# Altium footprint library vga.PcbLib: 95 footprints (part 5 of 7)
Each footprint in its own frame and in the unit in brackets; x right, y up, seen from the top. Pads: shape width x height; smd on the part's side, far side on the other; paste and mask are expansions set on the pad; w line width, h text height; cw(c..) or ccw(c..) is an arc to the next point about the centre after c.
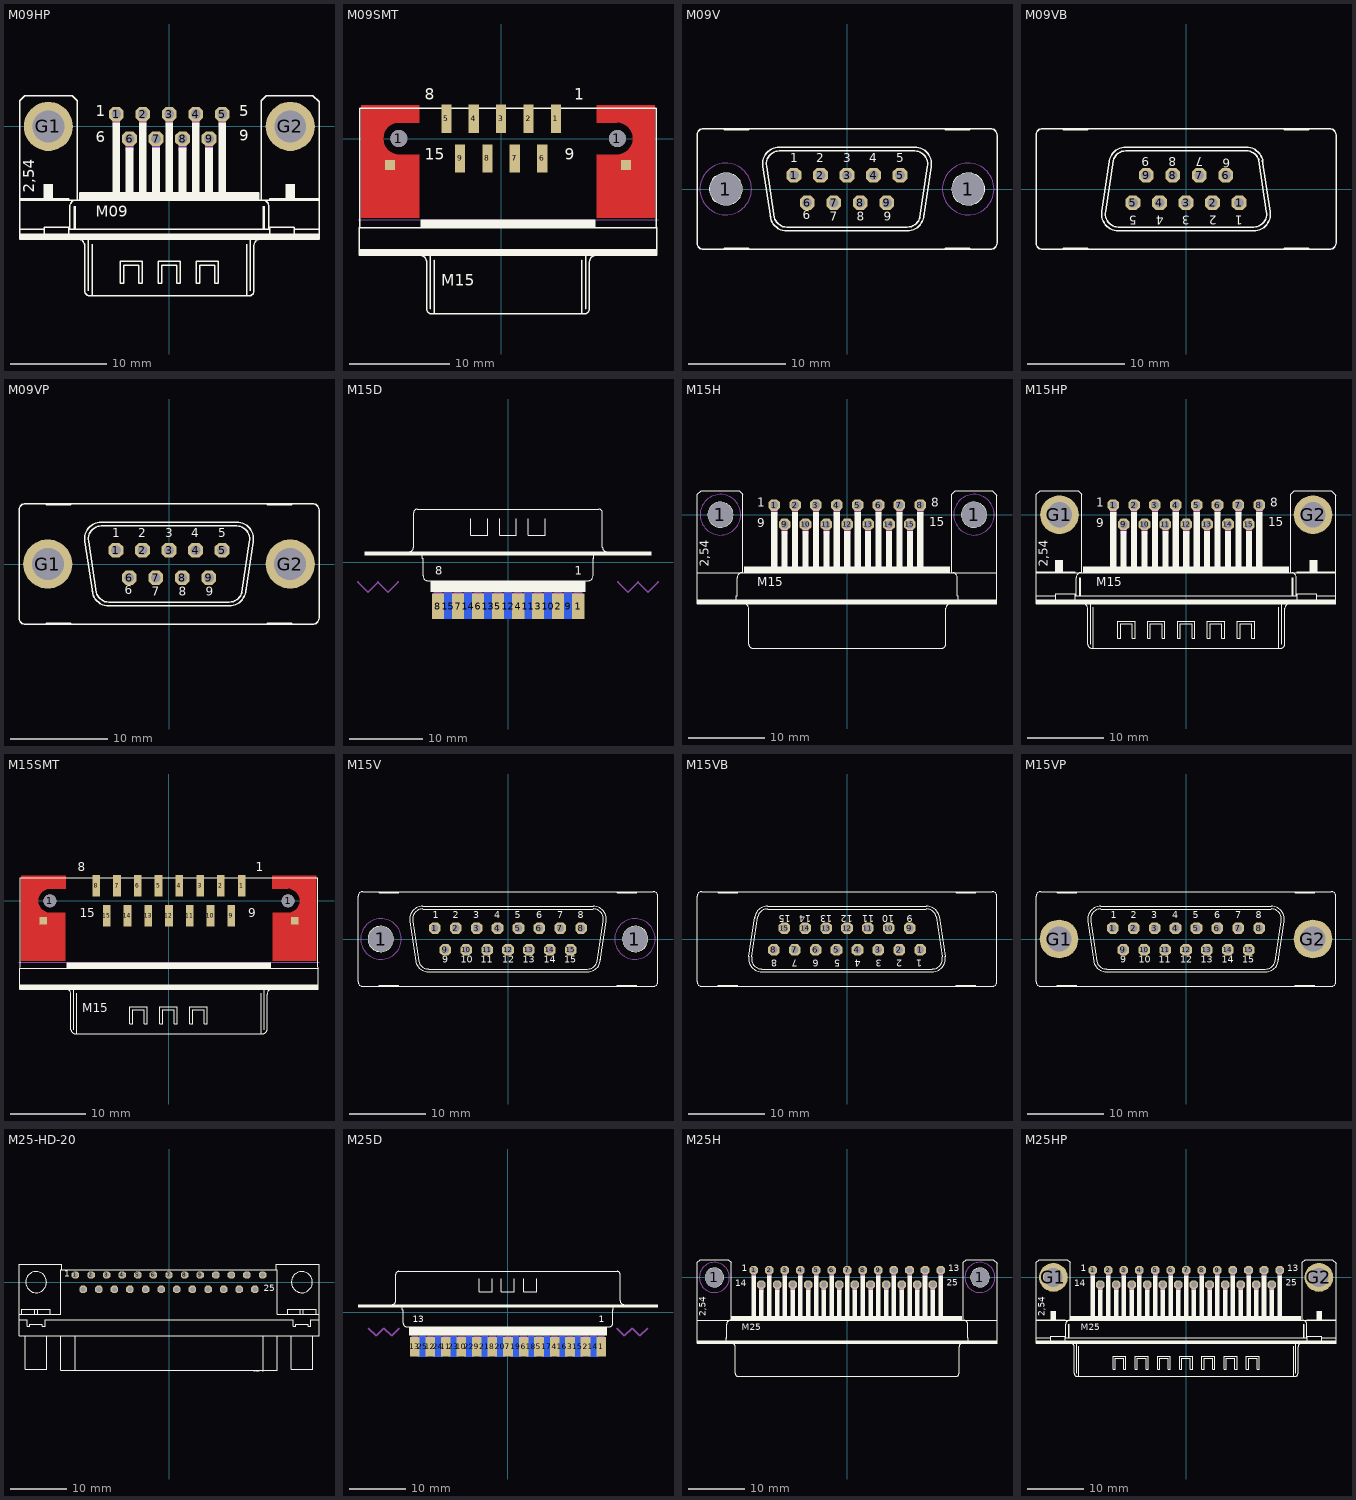
[diagram p4: the footprints below, top view; thin cyan lines are the x and y axes]

## M09HP [mil]
pads (11):
  oct 60x60 hole 40: 1(-216,50) 2(-108,50) 3(0,50) 4(108,50) 5(216,50) 6(-162,-50) 7(-54,-50) 8(54,-50) 9(162,-50)
  round 200 hole 130: G1(-493,0) G2(493,0)
Top Overlay:
  circle w6: c493,0 r65
  circle w6: c-493,0 r65
  rectangle: 380,-420 390,-325
  rectangle: -390,-420 -380,-325
  rectangle: 473,-300 513,-235
  rectangle: -513,-300 -473,-235
  rectangle: -365,-300 365,-270
  rectangle: -610,-460 610,-440
  rectangle: -232,-270 -200,15
  rectangle: -178,-270 -146,-85
  rectangle: -124,-270 -92,15
  rectangle: -70,-270 -38,-85
  rectangle: -16,-270 16,15
  rectangle: 38,-270 70,-85
  rectangle: 92,-270 124,15
  rectangle: 146,-270 178,-85
  rectangle: 200,-270 232,15
  lines w6: -380,-300 ccw(c-380,-325) -405,-325 -405,-420 ; -370,-460 cw(c-370,-485) -345,-485 -345,-670 ccw(c-325,-670) -325,-690 -315,-690 ; -330,-670 -330,-460 ; -315,-480 -315,-690 ; 315,-480 315,-690 ; 330,-670 330,-460 ; 370,-460 ccw(c370,-485) 345,-485 345,-670 cw(c325,-670) 325,-690 315,-690 ; 380,-300 cw(c380,-325) 405,-325 405,-420 ; -610,-440 -610,-460 -330,-460 ; -610,-440 -610,-420 ; -610,-440 -510,-440 ; -610,-420 -610,-300 ; -610,-420 -510,-420 ; -610,-300 -610,-295 ; -610,-300 -410,-300 ; -610,-295 -410,-295 -410,-300 ; -610,-295 -610,105 -590,125 -395,125 -375,105 -375,-300 ; -510,-440 -510,-420 ; -510,-440 -410,-440 ; -510,-420 -510,-410 -410,-410 -410,-420 ; -410,-440 410,-440 ; -410,-440 -410,-420 ; -410,-420 -405,-420 ; -410,-300 -375,-300 ; -405,-420 405,-420 ; -375,-300 -365,-300 ; -365,-300 365,-300 ; -365,-300 -365,-270 365,-270 365,-300 ; -330,-460 330,-460 ; -315,-690 315,-690 ; 330,-460 610,-460 610,-440 ; 365,-300 375,-300 ; 375,-300 410,-300 ; 375,-300 375,105 395,125 585,125 610,100 610,-295 ; 405,-420 410,-420 ; 410,-440 510,-440 ; 410,-440 410,-420 ; 410,-420 410,-410 510,-410 510,-420 ; 410,-300 610,-300 ; 410,-300 410,-295 610,-295 ; 510,-440 610,-440 ; 510,-440 510,-420 ; 510,-420 610,-420 ; 610,-440 610,-420 ; 610,-420 610,-300 ; 610,-300 610,-295 ; -200,-640 -185,-640 -185,-565 -125,-565 -125,-640 -110,-640 -110,-550 -200,-550 -200,-640 ; -45,-640 -30,-640 -30,-565 30,-565 30,-640 45,-640 45,-550 -45,-550 -45,-640 ; 110,-640 125,-640 125,-565 185,-565 185,-640 200,-640 200,-550 110,-550 110,-640
  text "1" at -300,25 h77.5
  text "5" at 285,25 h77.5
  text "9" at 285,-75 h77.5
  text "6" at -300,-80 h77.5
  text "2,54" at -535,-270 h77.5
  text "M09" at -300,-385 h77.5
Mechanical 2:
  text ">NAME" at -600,175 h108.5
Mechanical 4:
  text ">VALUE" at -300,-805 h108.5
Mechanical 16:
  lines w32: -216,5 -216,45 ; -162,-95 -162,-55 ; -108,5 -108,45 ; -54,-95 -54,-55 ; 0,5 0,45 ; 54,-95 54,-55 ; 108,5 108,45 ; 162,-95 162,-55 ; 216,5 216,45

## M09SMT [mil]
pads (13):
  round 67 hole 67: 1(-403.15,0) 1(458,0)
  rect 40x111 smd: 1(216,78) 2(108,78) 3(0,78) 4(-107.87,78) 5(-215.75,78) 6(162,-77.76) 7(54,-77.76) 8(-53.94,-77.76) 9(-161.81,-77.76)
  rect 40x40 smd: S@1(492,-104.33) S@2(-437.6,-103.35)
Top Layer:
  region: -551.08,-312.5 -322.44,-312.5 -322.44,-62.5 -401.08,-62.8 -413.38,-61.59 -425.21,-58 -436.11,-52.18 -445.67,-44.34 -453.51,-34.78 -459.34,-23.88 -462.92,-12.05 -464.14,0.25 -462.92,12.55 -459.34,24.38 -453.51,35.28 -445.67,44.84 -436.11,52.68 -425.21,58.5 -413.38,62.09 -401.08,63.3 -401.08,63 -321.46,63 -321.46,131 -551.08,131
  region: 606,-312.5 377,-312.5 377,-62.5 456,-62.8 456.01,-62.8 468.31,-61.59 480.13,-58 491.04,-52.18 500.59,-44.34 508.43,-34.78 514.26,-23.88 517.85,-12.05 519.06,0.25 517.85,12.55 514.26,24.38 508.43,35.28 500.59,44.84 491.04,52.68 480.13,58.5 468.31,62.09 456.01,63.3 456,63.3 456,63 376,63 376,131 606,131
Top Overlay:
  rectangle: -312.5,-351.18 368,-321.18
  rectangle: -558.07,-460 614,-434.65
  lines w6: -318.58,-460 cw(c-318.58,-485) -293.58,-485 -293.58,-670 ccw(c-273.58,-670) -273.58,-690 -263.58,-690 ; -278.58,-670 -278.58,-460 ; -263.58,-480 -263.58,-690 ; 318,-480 318,-690 ; 333,-670 333,-460 ; 373,-460 ccw(c373,-485) 348,-485 348,-670 cw(c328,-670) 328,-690 318,-690 ; -558.58,-351.18 -558.58,-460 -278.58,-460 ; -558.58,-351.18 -556.69,-346.18 -556.69,119 611,119 611,-346.18 613,-351.18 ; -558.58,-351.18 -313.58,-351.18 ; -313.58,-351.18 368,-351.18 ; -313.58,-351.18 -313.58,-321.18 368,-321.18 368,-351.18 ; -278.58,-460 333,-460 ; -263.58,-690 318,-690 ; 333,-460 613,-460 613,-351.18 ; 368,-351.18 613,-351.18
  text "8" at -300,138 h77.5
  text "1" at 289,138 h77.5
  text "15" at -300,-100 h77.5
  text "9" at 251,-100 h77.5
  text "M15" at -235.79,-594.65 h77.5
Mechanical 1:
  lines w0: -563.68,-318.9 618,-318.9
Mechanical 2:
  text ">NAME" at 139,200 h108.5
Mechanical 4:
  text ">VALUE" at -309.25,200 h108.5

## M09V [mil]
pads (11):
  round 130 hole 130: 1(-493,0) 1(493,0)
  oct 60x60 hole 40: 1(-216,56) 2(-108,56) 3(0,56) 4(108,56) 5(216,56) 6(-162,-56) 7(-54,-56) 8(54,-56) 9(162,-56)
Top Overlay:
  circle w6: c-493,0 r65
  circle w6: c493,0 r65
  lines w6: -342,92 -311,-116 ; -341.68,89 cw(c-275.14,102.17) -275,170 275,170 cw(c275.29,102.03) 342,89 ; -327,92 -296,-116 ; -326.97,92 cw(c-275.16,102.2) -275,155 275,155 cw(c275.22,102.06) 327,91 296,-115 ; -312.4,-110.99 ccw(c-245,-102) -245,-170 245,-170 ccw(c245.04,-101.94) 313,-105.7 ; -296.3,-115.33 ccw(c-245,-102) -245,-155 245,-155 ccw(c245.23,-101.7) 297,-114.37 ; 312,-113 342,91 ; -500,-245 -500,-240 -400,-240 -400,-245 ; -500,-245 -400,-245 ; -500,-245 -585,-245 cw(c-585,-220) -610,-220 -610,220 cw(c-585,220) -585,245 -500,245 ; -500,245 -500,240 -400,240 -400,245 ; -500,245 -400,245 ; -400,-245 400,-245 ; -400,245 400,245 ; 400,-245 400,-240 500,-240 500,-245 ; 400,-245 500,-245 ; 400,245 400,240 500,240 500,245 ; 400,245 500,245 ; 500,-245 585,-245 ccw(c585,-220) 610,-220 610,220 ccw(c585,220) 585,245 500,245
  text "3" at -15,96 h60.45
  text "1" at -230,96 h60.45
  text "2" at -125,96 h60.45
  text "4" at 90,96 h60.45
  text "5" at 200,96 h60.45
  text "6" at -180,-136 h60.45
  text "7" at -70,-141 h60.45
  text "8" at 40,-141 h60.45
  text "9" at 150,-141 h60.45
Mechanical 2:
  text ">NAME" at -600,275 h108.5
Mechanical 4:
  text ">VALUE" at -100,275 h108.5
Mechanical 9:
  circle w0: c-493,0 r105
  circle w0: c493,0 r105
Mechanical 10:
  circle w0: c-493,0 r105
  circle w0: c493,0 r105
Mechanical 16:
  circle w16: c0,56 r10
  circle w16: c54,-56 r10
  circle w16: c108,56 r10
  circle w16: c162,-56 r10
  circle w16: c216,56 r10
  circle w16: c-54,-56 r10
  circle w16: c-108,56 r10
  circle w16: c-162,-56 r10
  circle w16: c-216,56 r10

## M09VB [mil]
pads (9):
  oct 60x60 hole 40: 1(216,-56) 2(108,-56) 3(0,-56) 4(-108,-56) 5(-216,-56) 6(162,56) 7(54,56) 8(-54,56) 9(-162,56)
Top Overlay:
  lines w6: -342,-91 -312,113 ; -341.69,-88.67 ccw(c-275,-101.99) -275,-170 275,-170 ccw(c275.16,-101.87) 342,-88.67 ; -327,-91 -296,115 ; -326.79,-90.7 ccw(c-275,-101.99) -275,-155 275,-155 ccw(c275.01,-101.99) 327,-91.61 ; -312.89,106 cw(c-245.14,102.15) -245,170 245,170 cw(c245.3,101.66) 313,111 ; -296.52,115 cw(c-245.39,102.31) -245,155 245,155 cw(c245.78,101.88) 297,116 ; 296,116 327,-92 ; 311,116 342,-92 ; -500,-245 -585,-245 cw(c-585,-220) -610,-220 -610,220 cw(c-585,220) -585,245 -500,245 ; -500,-245 -500,-240 -400,-240 -400,-245 ; -500,-245 -400,-245 ; -500,245 -400,245 ; -500,245 -500,240 -400,240 -400,245 ; -400,-245 400,-245 ; -400,245 400,245 ; 400,-245 400,-240 500,-240 500,-245 ; 400,-245 500,-245 ; 400,245 500,245 ; 400,245 400,240 500,240 500,245 ; 500,-245 585,-245 ccw(c585,-220) 610,-220 610,220 ccw(c585,220) 585,245 500,245
  text "3" at 15,-96 h60.45
  text "1" at 230,-96 h60.45
  text "2" at 125,-96 h60.45
  text "4" at -90,-96 h60.45
  text "5" at -200,-96 h60.45
  text "6" at 180,136 h60.45
  text "7" at 70,141 h60.45
  text "8" at -40,141 h60.45
  text "9" at -150,141 h60.45
Mechanical 2:
  text ">NAME" at -600,275 h108.5
Mechanical 4:
  text ">VALUE" at -100,275 h108.5
Mechanical 16:
  circle w16: c0,-56 r10
  circle w16: c-54,56 r10
  circle w16: c-108,-56 r10
  circle w16: c-162,56 r10
  circle w16: c-216,-56 r10
  circle w16: c54,56 r10
  circle w16: c108,-56 r10
  circle w16: c162,56 r10
  circle w16: c216,-56 r10

## M09VP [mil]
pads (11):
  oct 60x60 hole 40: 1(-216,56) 2(-108,56) 3(0,56) 4(108,56) 5(216,56) 6(-162,-56) 7(-54,-56) 8(54,-56) 9(162,-56)
  round 200 hole 130: G1(-493,0) G2(493,0)
Top Overlay:
  circle w6: c-493,0 r65
  circle w6: c493,0 r65
  lines w6: -342,92 -311,-116 ; -341.68,89 cw(c-275.14,102.17) -275,170 275,170 cw(c275.29,102.03) 342,89 ; -327,92 -296,-116 ; -326.97,92 cw(c-275.16,102.2) -275,155 275,155 cw(c275.22,102.06) 327,91 296,-115 ; -312.4,-110.99 ccw(c-245,-102) -245,-170 245,-170 ccw(c245.04,-101.94) 313,-105.7 ; -296.3,-115.33 ccw(c-245,-102) -245,-155 245,-155 ccw(c245.23,-101.7) 297,-114.37 ; 312,-113 342,91 ; -500,-245 -500,-240 -400,-240 -400,-245 ; -500,-245 -400,-245 ; -500,-245 -585,-245 cw(c-585,-220) -610,-220 -610,220 cw(c-585,220) -585,245 -500,245 ; -500,245 -500,240 -400,240 -400,245 ; -500,245 -400,245 ; -400,-245 400,-245 ; -400,245 400,245 ; 400,-245 400,-240 500,-240 500,-245 ; 400,-245 500,-245 ; 400,245 400,240 500,240 500,245 ; 400,245 500,245 ; 500,-245 585,-245 ccw(c585,-220) 610,-220 610,220 ccw(c585,220) 585,245 500,245
  text "3" at -15,96 h60.45
  text "1" at -230,96 h60.45
  text "2" at -125,96 h60.45
  text "4" at 90,96 h60.45
  text "5" at 200,96 h60.45
  text "6" at -180,-136 h60.45
  text "7" at -70,-141 h60.45
  text "8" at 40,-141 h60.45
  text "9" at 150,-141 h60.45
Mechanical 2:
  text ">NAME" at -600,275 h108.5
Mechanical 4:
  text ">VALUE" at -100,275 h108.5
Mechanical 16:
  circle w16: c0,56 r10
  circle w16: c54,-56 r10
  circle w16: c108,56 r10
  circle w16: c162,-56 r10
  circle w16: c216,56 r10
  circle w16: c-54,-56 r10
  circle w16: c-108,56 r10
  circle w16: c-162,-56 r10
  circle w16: c-216,56 r10

## M15D [mil]
pads (15):
  rect 67x138 smd: 1(379,-237.98) 2(270,-237.99) 3(162,-237.98) 4(55,-237.98) 5(-54.01,-237.98) 6(-161.99,-237.98) 7(-270,-237.99) 8(-378.01,-237.98)
  rect 67x138 smd far side: 9(324,-238) 10(216,-238) 11(108,-238) 12(0,-238) 13(-108,-238) 14(-216,-238) 15(-324,-238)
Top Overlay:
  rectangle: -775,36 775,56
  rectangle: -417.32,-161.42 418,-98.43
  lines w6: -535,56 ccw(c-535,81) -510,81 -510,266 cw(c-490,266) -490,286 490,286 cw(c490,266) 510,266 510,81 ccw(c535,81) 535,56 ; -464,40 -464,20 -459,20 -459,-75 ccw(c-434,-75) -434,-100 ; -434.76,-100 435,-100 ; -200,235 -200,145 -110,145 -110,235 ; -45,235 -45,145 45,145 45,235 ; 110,235 110,145 200,145 200,235 ; 434,-100 ccw(c434,-75) 459,-75 459,20 464,20 464,40
  text "1" at 361,-85.77 h77.5
  text "8" at -393.8,-85.77 h77.5
Bottom Overlay:
  text "9" at 346,-32.48 h77.5
  text "15" at -307.19,-32.48 h77.5
Mechanical 2:
  text ">NAME" at -404,-400 h108.5
Mechanical 4:
  text ">VALUE" at -4,-400 h108.5
Mechanical 13:
  lines w10: -810,-108 -756,-162 -702,-108 -648,-162 -594,-108 ; 594,-108 648,-162 702,-108 756,-162 810,-108
  text "Board" at 612,-100 h77.5
  text "Board" at -812,-100 h77.5
Mechanical 16:
  rectangle: 355,-258.27 402,-159.84
  rectangle: 247,-258.27 294,-159.84
  rectangle: 139,-258.27 186,-159.84
  rectangle: 31,-258.27 78,-159.84
  rectangle: -77.62,-258.27 -30.38,-159.84
  rectangle: -185.62,-258.27 -138.38,-159.84
  rectangle: -293.62,-258.27 -246.38,-159.84
  rectangle: -401.62,-258.27 -354.38,-159.84
  text "M15D" at -408,181 h77.5
Mechanical 30:
  rectangle: 301,-258.27 348,-159.84
  rectangle: 193,-258.27 240,-159.84
  rectangle: 85,-258.27 132,-159.84
  rectangle: -23.62,-258.27 24,-159.84
  rectangle: -131.62,-258.27 -84.38,-159.84
  rectangle: -239.62,-258.27 -192.38,-159.84
  rectangle: -347.62,-258.27 -300.38,-159.84

## M15H [mil]
pads (17):
  round 130 hole 130: 1(-656,0) 1(656,0)
  oct 60x60 hole 40: 1(-378,50) 2(-270,50) 3(-162,50) 4(-54,50) 5(54,50) 6(162,50) 7(270,50) 8(378,50) 9(-324,-50) 10(-216,-50) 11(-108,-50) 12(0,-50) 13(108,-50) 14(216,-50) 15(324,-50)
Top Overlay:
  circle w6: c656,0 r65
  circle w6: c-656,0 r65
  rectangle: -775,-460 775,-440
  rectangle: -530,-300 530,-270
  rectangle: -394,-270 -362,15
  rectangle: -340,-270 -308,-85
  rectangle: -286,-270 -254,15
  rectangle: -232,-270 -200,-85
  rectangle: -178,-270 -146,15
  rectangle: -124,-270 -92,-85
  rectangle: -70,-270 -38,15
  rectangle: -16,-270 16,-85
  rectangle: 38,-270 70,15
  rectangle: 92,-270 124,-85
  rectangle: 146,-270 178,15
  rectangle: 200,-270 232,-85
  rectangle: 254,-270 286,15
  rectangle: 308,-270 340,-85
  rectangle: 362,-270 394,15
  lines w6: -545,-300 ccw(c-545,-325) -570,-325 -570,-420 -575,-420 -575,-440 ; -535,-460 cw(c-535,-485) -510,-485 -510,-670 ccw(c-490,-670) -490,-690 -480,-690 480,-690 490,-690 ccw(c490,-670) 510,-670 510,-485 cw(c535,-485) 535,-460 ; 545,-300 cw(c545,-325) 570,-325 570,-420 575,-420 575,-440 ; -775,-440 -775,-460 -495,-460 495,-460 775,-460 775,-440 ; -775,-440 -775,-420 -775,-300 ; -775,-440 -675,-440 -575,-440 ; -775,-300 -775,-295 -775,105 -755,125 -560,125 -540,105 -540,-300 ; -775,-300 -575,-300 -540,-300 ; -575,-440 575,-440 ; -540,-300 -530,-300 ; -530,-300 530,-300 ; -530,-300 -530,-270 530,-270 530,-300 ; 530,-300 540,-300 ; 540,-300 575,-300 775,-300 ; 540,-300 540,105 560,125 750,125 775,100 775,-295 775,-300 ; 575,-440 675,-440 775,-440 ; 775,-440 775,-420 775,-300
  text "1" at -465,25 h77.5
  text "8" at 435,25 h77.5
  text "9" at -465,-80 h77.5
  text "15" at 425,-75 h77.5
  text "2,54" at -700,-270 h77.5
  text "M15" at -465,-385 h77.5
Mechanical 2:
  text ">NAME" at -760,175 h108.5
Mechanical 4:
  text ">VALUE" at -400,-805 h108.5
Mechanical 9:
  circle w0: c656,0 r105
  circle w0: c-656,0 r105
Mechanical 10:
  circle w0: c656,0 r105
  circle w0: c-656,0 r105
Mechanical 16:
  lines w32: -378,5 -378,45 ; -324,-95 -324,-55 ; -270,5 -270,45 ; -216,-95 -216,-55 ; -162,5 -162,45 ; -108,-95 -108,-55 ; -54,5 -54,45 ; 0,-95 0,-55 ; 54,5 54,45 ; 108,-95 108,-55 ; 162,5 162,45 ; 216,-95 216,-55 ; 270,5 270,45 ; 324,-95 324,-55 ; 378,5 378,45

## M15HP [mil]
pads (17):
  oct 60x60 hole 40: 1(-378,50) 2(-270,50) 3(-162,50) 4(-54,50) 5(54,50) 6(162,50) 7(270,50) 8(378,50) 9(-324,-50) 10(-216,-50) 11(-108,-50) 12(0,-50) 13(108,-50) 14(216,-50) 15(324,-50)
  round 200 hole 130: G1(-656,0) G2(656,0)
Top Overlay:
  circle w6: c-656,0 r65
  circle w6: c656,0 r65
  rectangle: 545,-420 555,-325
  rectangle: -555,-420 -545,-325
  rectangle: 638,-300 678,-235
  rectangle: -678,-300 -638,-235
  rectangle: -775,-460 775,-440
  rectangle: -530,-300 530,-270
  rectangle: -394,-270 -362,15
  rectangle: -340,-270 -308,-85
  rectangle: -286,-270 -254,15
  rectangle: -232,-270 -200,-85
  rectangle: -178,-270 -146,15
  rectangle: -124,-270 -92,-85
  rectangle: -70,-270 -38,15
  rectangle: -16,-270 16,-85
  rectangle: 38,-270 70,15
  rectangle: 92,-270 124,-85
  rectangle: 146,-270 178,15
  rectangle: 200,-270 232,-85
  rectangle: 254,-270 286,15
  rectangle: 308,-270 340,-85
  rectangle: 362,-270 394,15
  lines w6: -545,-300 ccw(c-545,-325) -570,-325 -570,-420 ; -535,-460 cw(c-535,-485) -510,-485 -510,-670 ccw(c-490,-670) -490,-690 -480,-690 ; -495,-670 -495,-460 ; -480,-480 -480,-690 ; 480,-480 480,-690 ; 495,-670 495,-460 ; 535,-460 ccw(c535,-485) 510,-485 510,-670 cw(c490,-670) 490,-690 480,-690 ; 545,-300 cw(c545,-325) 570,-325 570,-420 ; -775,-440 -775,-460 -495,-460 ; -775,-440 -775,-420 ; -775,-440 -675,-440 ; -775,-420 -775,-300 ; -775,-420 -675,-420 ; -775,-300 -775,-295 ; -775,-300 -575,-300 ; -775,-295 -575,-295 -575,-300 ; -775,-295 -775,105 -755,125 -560,125 -540,105 -540,-300 ; -675,-440 -675,-420 ; -675,-440 -575,-440 ; -675,-420 -675,-410 -575,-410 -575,-420 ; -575,-440 575,-440 ; -575,-440 -575,-420 ; -575,-420 -570,-420 ; -575,-300 -540,-300 ; -570,-420 570,-420 ; -540,-300 -530,-300 ; -530,-300 530,-300 ; -530,-300 -530,-270 530,-270 530,-300 ; -495,-460 495,-460 ; -480,-690 480,-690 ; 495,-460 775,-460 775,-440 ; 530,-300 540,-300 ; 540,-300 575,-300 ; 540,-300 540,105 560,125 750,125 775,100 775,-295 ; 570,-420 575,-420 ; 575,-440 675,-440 ; 575,-440 575,-420 ; 575,-420 575,-410 675,-410 675,-420 ; 575,-300 775,-300 ; 575,-300 575,-295 775,-295 ; 675,-440 775,-440 ; 675,-440 675,-420 ; 675,-420 775,-420 ; 775,-440 775,-420 ; 775,-420 775,-300 ; 775,-300 775,-295 ; -355,-640 -340,-640 -340,-565 -280,-565 -280,-640 -265,-640 -265,-550 -355,-550 -355,-640 ; -200,-640 -185,-640 -185,-565 -125,-565 -125,-640 -110,-640 -110,-550 -200,-550 -200,-640 ; -45,-640 -30,-640 -30,-565 30,-565 30,-640 45,-640 45,-550 -45,-550 -45,-640 ; 110,-640 125,-640 125,-565 185,-565 185,-640 200,-640 200,-550 110,-550 110,-640 ; 265,-640 280,-640 280,-565 340,-565 340,-640 355,-640 355,-550 265,-550 265,-640
  text "1" at -465,25 h77.5
  text "8" at 435,25 h77.5
  text "9" at -465,-80 h77.5
  text "15" at 425,-75 h77.5
  text "2,54" at -700,-270 h77.5
  text "M15" at -465,-385 h77.5
Mechanical 2:
  text ">NAME" at -760,175 h108.5
Mechanical 4:
  text ">VALUE" at -400,-805 h108.5
Mechanical 16:
  lines w32: -378,5 -378,45 ; -324,-95 -324,-55 ; -270,5 -270,45 ; -216,-95 -216,-55 ; -162,5 -162,45 ; -108,-95 -108,-55 ; -54,5 -54,45 ; 0,-95 0,-55 ; 54,5 54,45 ; 108,-95 108,-55 ; 162,5 162,45 ; 216,-95 216,-55 ; 270,5 270,45 ; 324,-95 324,-55 ; 378,5 378,45

## M15SMT [mil]
pads (19):
  round 67 hole 67: 1(-618.9,0) 1(619,0)
  rect 40x111 smd: 1(378,78) 2(270,78) 3(162,78) 4(54,78) 5(-53.94,78) 6(-161.81,78) 7(-269.69,78) 8(-377.56,78) 9(324,-77.76) 10(216,-77.76) 11(108,-77.76) 12(0,-77.76) 13(-107.87,-77.76) 14(-215.75,-77.76) 15(-323.62,-77.76)
  rect 40x40 smd: S@1(654,-104.33) S@2(-653.35,-103.35)
Top Layer:
  region: -766.83,-312.5 -538.19,-312.5 -538.19,-62.5 -616.83,-62.8 -629.13,-61.59 -640.96,-58 -651.86,-52.18 -661.42,-44.34 -669.26,-34.78 -675.08,-23.88 -678.67,-12.05 -679.88,0.25 -678.67,12.55 -675.08,24.38 -669.26,35.28 -661.42,44.84 -651.86,52.68 -640.96,58.5 -629.13,62.09 -616.83,63.3 -616.83,63 -537.2,63 -537.2,131 -766.83,131
  region: 767,-312.5 539,-312.5 539,-62.5 617,-62.8 617.01,-62.8 629.31,-61.59 641.13,-58 652.04,-52.18 661.59,-44.34 669.43,-34.78 675.26,-23.88 678.85,-12.05 680.06,0.25 678.85,12.55 675.26,24.38 669.43,35.28 661.59,44.84 652.04,52.68 641.13,58.5 629.31,62.09 617.01,63.3 617,63.3 617,63 538,63 538,131 767,131
Top Overlay:
  rectangle: -529.53,-351.18 529,-321.18
  rectangle: -773.62,-460 775,-434.65
  lines w6: -534.33,-460 cw(c-534.33,-485) -509.33,-485 -509.33,-670 ccw(c-489.33,-670) -489.33,-690 -479.33,-690 ; -494.33,-670 -494.33,-460 ; -479.33,-480 -479.33,-690 ; 480,-480 480,-690 ; 495,-670 495,-460 ; 535,-460 ccw(c535,-485) 510,-485 510,-670 cw(c490,-670) 490,-690 480,-690 ; -774.33,-351.18 -774.33,-460 -494.33,-460 ; -774.33,-351.18 -772.44,-346.18 -772.44,119 773,119 773,-346.18 775,-351.18 ; -774.33,-351.18 -529.33,-351.18 ; -529.33,-351.18 530,-351.18 ; -529.33,-351.18 -529.33,-321.18 530,-321.18 530,-351.18 ; -494.33,-460 495,-460 ; -479.33,-690 480,-690 ; 495,-460 775,-460 775,-351.18 ; 530,-351.18 775,-351.18 ; -202.99,-640 -187.99,-640 -187.99,-565 -127.99,-565 -127.99,-640 -112.99,-640 -112.99,-550 -202.99,-550 -202.99,-640 ; -47.99,-640 -32.99,-640 -32.99,-565 28,-565 28,-640 43,-640 43,-550 -47.99,-550 -47.99,-640 ; 108,-640 123,-640 123,-565 183,-565 183,-640 198,-640 198,-550 108,-550 108,-640
  text "8" at -475,138 h77.5
  text "1" at 450,138 h77.5
  text "15" at -462.5,-100 h77.5
  text "9" at 413,-100 h77.5
  text "M15" at -451.54,-594.65 h77.5
Mechanical 1:
  lines w0: -779.43,-318.9 780,-318.9
Mechanical 2:
  text ">NAME" at 300,200 h108.5
Mechanical 4:
  text ">VALUE" at -525,200 h108.5

## M15V [mil]
pads (17):
  round 130 hole 130: 1(-656,0) 1(656,0)
  oct 60x60 hole 40: 1(-378,56) 2(-270,56) 3(-162,56) 4(-54,56) 5(54,56) 6(162,56) 7(270,56) 8(378,56) 9(-324,-56) 10(-216,-56) 11(-108,-56) 12(0,-56) 13(108,-56) 14(216,-56) 15(324,-56)
Top Overlay:
  circle w6: c-658,0 r65
  circle w6: c658,0 r65
  lines w6: -507,92 -476,-116 ; -506.68,89 cw(c-440.14,102.17) -440,170 440,170 cw(c440.29,102.03) 507,89 ; -492,92 -461,-116 ; -491.97,92 cw(c-440.16,102.2) -440,155 440,155 cw(c440.22,102.06) 492,91 461,-115 ; -477.4,-110.99 ccw(c-410,-102) -410,-170 410,-170 ccw(c410.04,-101.94) 478,-105.7 ; -461.3,-115.33 ccw(c-410,-102) -410,-155 410,-155 ccw(c410.23,-101.7) 462,-114.37 ; 477,-113 507,91 ; -665,-245 -665,-240 -565,-240 -565,-245 ; -665,-245 -565,-245 ; -665,-245 -750,-245 cw(c-750,-220) -775,-220 -775,220 cw(c-750,220) -750,245 -665,245 ; -665,245 -665,240 -565,240 -565,245 ; -665,245 -565,245 ; -565,-245 565,-245 ; -565,245 565,245 ; 565,-245 565,-240 665,-240 665,-245 ; 565,-245 665,-245 ; 565,245 565,240 665,240 665,245 ; 565,245 665,245 ; 665,-245 750,-245 ccw(c750,-220) 775,-220 775,220 ccw(c750,220) 750,245 665,245
  text "1" at -390,95 h60.45
  text "2" at -285,95 h60.45
  text "3" at -180,95 h60.45
  text "4" at -70,95 h60.45
  text "5" at 35,95 h60.45
  text "6" at 145,95 h60.45
  text "7" at 255,95 h60.45
  text "8" at 360,95 h60.45
  text "9" at -340,-135 h60.45
  text "10" at -245,-135 h60.45
  text "11" at -140,-135 h60.45
  text "12" at -30,-135 h60.45
  text "13" at 75,-135 h60.45
  text "14" at 185,-135 h60.45
  text "15" at 290,-135 h60.45
Mechanical 2:
  text ">NAME" at -765,275 h108.5
Mechanical 4:
  text ">VALUE" at -100,275 h108.5
Mechanical 9:
  circle w0: c656,0 r105
  circle w0: c-656,0 r105
Mechanical 10:
  circle w0: c656,0 r105
  circle w0: c-656,0 r105
Mechanical 16:
  circle w16: c0,-56 r10
  circle w16: c-54,56 r10
  circle w16: c-108,-56 r10
  circle w16: c-162,56 r10
  circle w16: c-216,-56 r10
  circle w16: c54,56 r10
  circle w16: c108,-56 r10
  circle w16: c162,56 r10
  circle w16: c216,-56 r10
  circle w16: c270,56 r10
  circle w16: c378,56 r10
  circle w16: c324,-56 r10
  circle w16: c-270,56 r10
  circle w16: c-378,56 r10
  circle w16: c-324,-56 r10

## M15VB [mil]
pads (15):
  oct 60x60 hole 40: 1(378,-56) 2(270,-56) 3(162,-56) 4(54,-56) 5(-54,-56) 6(-162,-56) 7(-270,-56) 8(-378,-56) 9(324,56) 10(216,56) 11(108,56) 12(0,56) 13(-108,56) 14(-216,56) 15(-324,56)
Top Overlay:
  lines w6: -507,-91 -477,113 ; -506.69,-88.67 ccw(c-440,-101.99) -440,-170 440,-170 ccw(c440.16,-101.87) 507,-88.67 ; -492,-91 -461,115 ; -491.79,-90.7 ccw(c-440,-101.99) -440,-155 440,-155 ccw(c440.01,-101.99) 492,-91.61 ; -477.89,106 cw(c-410.14,102.15) -410,170 410,170 cw(c410.3,101.66) 478,111 ; -461.52,115 cw(c-410.39,102.31) -410,155 410,155 cw(c410.78,101.88) 462,116 ; 461,116 492,-92 ; 476,116 507,-92 ; -665,-245 -750,-245 cw(c-750,-220) -775,-220 -775,220 cw(c-750,220) -750,245 -665,245 ; -665,-245 -665,-240 -565,-240 -565,-245 ; -665,-245 -565,-245 ; -665,245 -565,245 ; -665,245 -665,240 -565,240 -565,245 ; -565,-245 565,-245 ; -565,245 565,245 ; 565,-245 565,-240 665,-240 665,-245 ; 565,-245 665,-245 ; 565,245 665,245 ; 565,245 565,240 665,240 665,245 ; 665,-245 750,-245 ccw(c750,-220) 775,-220 775,220 ccw(c750,220) 750,245 665,245
  text "1" at 390,-95 h60.45
  text "2" at 285,-95 h60.45
  text "3" at 180,-95 h60.45
  text "4" at 70,-95 h60.45
  text "5" at -35,-95 h60.45
  text "6" at -145,-95 h60.45
  text "7" at -255,-95 h60.45
  text "8" at -360,-95 h60.45
  text "9" at 340,135 h60.45
  text "10" at 245,135 h60.45
  text "11" at 140,135 h60.45
  text "12" at 30,135 h60.45
  text "13" at -75,135 h60.45
  text "14" at -185,135 h60.45
  text "15" at -290,135 h60.45
Mechanical 2:
  text ">NAME" at -765,275 h108.5
Mechanical 4:
  text ">VALUE" at -100,275 h108.5
Mechanical 16:
  circle w16: c0,56 r10
  circle w16: c54,-56 r10
  circle w16: c108,56 r10
  circle w16: c162,-56 r10
  circle w16: c216,56 r10
  circle w16: c-54,-56 r10
  circle w16: c-108,56 r10
  circle w16: c-162,-56 r10
  circle w16: c-216,56 r10
  circle w16: c-270,-56 r10
  circle w16: c-378,-56 r10
  circle w16: c-324,56 r10
  circle w16: c270,-56 r10
  circle w16: c378,-56 r10
  circle w16: c324,56 r10

## M15VP [mil]
pads (17):
  oct 60x60 hole 40: 1(-378,56) 2(-270,56) 3(-162,56) 4(-54,56) 5(54,56) 6(162,56) 7(270,56) 8(378,56) 9(-324,-56) 10(-216,-56) 11(-108,-56) 12(0,-56) 13(108,-56) 14(216,-56) 15(324,-56)
  round 200 hole 130: G1(-656,0) G2(656,0)
Top Overlay:
  circle w6: c-658,0 r65
  circle w6: c658,0 r65
  lines w6: -507,92 -476,-116 ; -506.68,89 cw(c-440.14,102.17) -440,170 440,170 cw(c440.29,102.03) 507,89 ; -492,92 -461,-116 ; -491.97,92 cw(c-440.16,102.2) -440,155 440,155 cw(c440.22,102.06) 492,91 461,-115 ; -477.4,-110.99 ccw(c-410,-102) -410,-170 410,-170 ccw(c410.04,-101.94) 478,-105.7 ; -461.3,-115.33 ccw(c-410,-102) -410,-155 410,-155 ccw(c410.23,-101.7) 462,-114.37 ; 477,-113 507,91 ; -665,-245 -665,-240 -565,-240 -565,-245 ; -665,-245 -565,-245 ; -665,-245 -750,-245 cw(c-750,-220) -775,-220 -775,220 cw(c-750,220) -750,245 -665,245 ; -665,245 -665,240 -565,240 -565,245 ; -665,245 -565,245 ; -565,-245 565,-245 ; -565,245 565,245 ; 565,-245 565,-240 665,-240 665,-245 ; 565,-245 665,-245 ; 565,245 565,240 665,240 665,245 ; 565,245 665,245 ; 665,-245 750,-245 ccw(c750,-220) 775,-220 775,220 ccw(c750,220) 750,245 665,245
  text "1" at -390,95 h60.45
  text "2" at -285,95 h60.45
  text "3" at -180,95 h60.45
  text "4" at -70,95 h60.45
  text "5" at 35,95 h60.45
  text "6" at 145,95 h60.45
  text "7" at 255,95 h60.45
  text "8" at 360,95 h60.45
  text "9" at -340,-135 h60.45
  text "10" at -245,-135 h60.45
  text "11" at -140,-135 h60.45
  text "12" at -30,-135 h60.45
  text "13" at 75,-135 h60.45
  text "14" at 185,-135 h60.45
  text "15" at 290,-135 h60.45
Mechanical 2:
  text ">NAME" at -765,275 h108.5
Mechanical 4:
  text ">VALUE" at -100,275 h108.5
Mechanical 16:
  circle w16: c0,-56 r10
  circle w16: c-54,56 r10
  circle w16: c-108,-56 r10
  circle w16: c-162,56 r10
  circle w16: c-216,-56 r10
  circle w16: c54,56 r10
  circle w16: c108,-56 r10
  circle w16: c162,56 r10
  circle w16: c216,-56 r10
  circle w16: c270,56 r10
  circle w16: c378,56 r10
  circle w16: c324,-56 r10
  circle w16: c-270,56 r10
  circle w16: c-378,56 r10
  circle w16: c-324,-56 r10

## M25-HD-20 [mil]
pads (25):
  oct 52x52 hole 36: 1(-652,50) 2(-543,50) 3(-435,50) 4(-326,50) 5(-217,50) 6(-109,50) 7(0,50) 8(109,50) 9(217,50) 10(326,50) 11(435,50) 12(543,50) 13(652,50) 14(-598,-50) 15(-489,-50) 16(-380,-50) 17(-272,-50) 18(-163,-50) 19(-54,-50) 20(54,-50) 21(163,-50) 22(272,-50) 23(380,-50) 24(489,-50) 25(598,-50)
Top Overlay:
  circle w8: c-926,0 r73
  circle w8: c926,0 r73
  lines w8: -1045,-261.6 -988.5,-261.6 -988.5,-308.6 -968.5,-308.6 -968.5,-292.2 -883.5,-292.2 -883.5,-308.6 -863.5,-308.6 -863.5,-261.6 864,-261.6 864,-308.6 884,-308.6 884,-292.2 969,-292.2 969,-308.6 989,-308.6 989,-261.6 1045,-261.6 ; -1045,-223.6 -755,-223.6 -755,86 755,86 755,-223.6 1045,-223.6 ; -1025,-223.6 -1025,-188.6 -827,-188.6 -827,-223.6 ; -1001,-375 -1001,-606.6 -851,-606.6 -851,-375 ; -936,-223.6 -936,-188.6 ; -916,-223.6 -916,-188.6 ; -754.4,-375 -754.4,-614 755,-614 755,-375 ; -747,86 -747,126 -1045,126 -1045,-375 1045,-375 1045,126 747,126 747,86 ; -654.4,-614 -654.4,-375 ; 590,-614 590,-618.5 598,-618.5 598,-614 ; 594,-618.5 594,-614 ; 603,-614 603,-618.5 628,-618.5 628,-614 ; 618,-618.5 618,-614 ; 622,-618.5 622,-614 ; 650,-614 650,-618.5 658,-618.5 658,-614 ; 654,-618.5 654,-614 ; 655,-614 655,-375 ; 827,-223.6 827,-188.6 1025,-188.6 1025,-223.6 ; 851,-375 851,-606.6 1001,-606.6 1001,-375 ; 916,-223.6 916,-188.6 ; 937,-223.6 937,-188.6
  text "1" at -730,20 h77.5
  text "25" at 660,-80 h77.5
Mechanical 2:
  text ">NAME" at -700,120 h77.5
Mechanical 4:
  text ">VALUE" at -240,-220 h77.5

## M25D [mil]
pads (25):
  rect 67x138 smd: 1(649,-237.98) 2(540,-237.99) 3(432,-237.98) 4(325,-237.98) 5(216,-237.98) 6(109,-237.98) 7(0,-237.99) 8(-108.01,-237.98) 9(-215.99,-237.98) 10(-324.01,-237.98) 11(-431.99,-237.98) 12(-540,-237.99) 13(-648.01,-237.98)
  rect 67x138 smd far side: 14(594,-238) 15(486,-238) 16(378,-238) 17(270,-238) 18(162,-238) 19(54,-238) 20(-54,-238) 21(-162,-238) 22(-270,-238) 23(-378,-238) 24(-486,-238) 25(-594,-238)
Top Overlay:
  rectangle: -1043.31,36 1044,56
  rectangle: -688.98,-161.42 689,-98.43
  lines w6: -805,56 ccw(c-805,81) -780,81 -780,266 cw(c-760,266) -760,286 760,286 cw(c760,266) 780,266 780,81 ccw(c805,81) 805,56 ; -734,40 -734,20 -729,20 -729,-75 ccw(c-704,-75) -704,-100 ; -704.76,-100 705,-100 ; -200,235 -200,145 -110,145 -110,235 ; -45,235 -45,145 45,145 45,235 ; 110,235 110,145 200,145 200,235 ; 704,-100 ccw(c704,-75) 729,-75 729,20 734,20 734,40
  text "1" at 631,-85.77 h77.5
  text "13" at -663.8,-85.77 h77.5
Bottom Overlay:
  text "25" at -577.19,-32.48 h77.5
  text "14" at 616,-32.48 h77.5
Mechanical 2:
  text ">NAME" at -404,-400 h108.5
Mechanical 4:
  text ">VALUE" at -4,-400 h108.5
Mechanical 13:
  lines w10: -972,-108 -918,-162 -864,-108 -810,-162 -756,-108 ; 756,-108 810,-162 864,-108 918,-162 972,-108
  text "Board" at 774,-100 h77.5
  text "Board" at -974,-100 h77.5
Mechanical 16:
  rectangle: 625,-258.27 672,-159.84
  rectangle: 517,-258.27 564,-159.84
  rectangle: 409,-258.27 456,-159.84
  rectangle: 301,-258.27 348,-159.84
  rectangle: 193,-258.27 240,-159.84
  rectangle: 85,-258.27 132,-159.84
  rectangle: -23.62,-258.27 24,-159.84
  rectangle: -131.62,-258.27 -84.38,-159.84
  rectangle: -239.62,-258.27 -192.38,-159.84
  rectangle: -347.62,-258.27 -300.38,-159.84
  rectangle: -455.62,-258.27 -408.38,-159.84
  rectangle: -563.62,-258.27 -516.38,-159.84
  rectangle: -671.62,-258.27 -624.38,-159.84
  text "M25D" at -678,181 h77.5
Mechanical 30:
  rectangle: 571,-258.27 618,-159.84
  rectangle: 463,-258.27 510,-159.84
  rectangle: 355,-258.27 402,-159.84
  rectangle: 247,-258.27 294,-159.84
  rectangle: 139,-258.27 186,-159.84
  rectangle: 31,-258.27 78,-159.84
  rectangle: -77.62,-258.27 -30.38,-159.84
  rectangle: -185.62,-258.27 -138.38,-159.84
  rectangle: -293.62,-258.27 -246.38,-159.84
  rectangle: -401.62,-258.27 -354.38,-159.84
  rectangle: -509.62,-258.27 -462.38,-159.84
  rectangle: -617.62,-258.27 -570.38,-159.84

## M25H [mil]
pads (27):
  round 130 hole 130: 1(-926,0) 1(926,0)
  oct 60x60 hole 40: 1(-652,50) 2(-543,50) 3(-435,50) 4(-326,50) 5(-217,50) 6(-109,50) 7(0,50) 8(109,50) 9(217,50) 10(326,50) 11(435,50) 12(543,50) 13(652,50) 14(-598,-50) 15(-489,-50) 16(-380,-50) 17(-272,-50) 18(-163,-50) 19(-54,-50) 20(54,-50) 21(163,-50) 22(272,-50) 23(380,-50) 24(489,-50) 25(598,-50)
Top Overlay:
  circle w6: c926,0 r65
  circle w6: c-926,0 r65
  rectangle: -1045,-460 1045,-440
  rectangle: -800,-300 800,-270
  rectangle: -668,-270 -636,15
  rectangle: -614,-270 -582,-85
  rectangle: -559,-270 -527,15
  rectangle: -505,-270 -473,-85
  rectangle: -451,-270 -419,15
  rectangle: -396,-270 -364,-85
  rectangle: -342,-270 -310,15
  rectangle: -288,-270 -256,-85
  rectangle: -233,-270 -201,15
  rectangle: -179,-270 -147,-85
  rectangle: -125,-270 -93,15
  rectangle: -70,-270 -38,-85
  rectangle: -16,-270 16,15
  rectangle: 38,-270 70,-85
  rectangle: 93,-270 125,15
  rectangle: 147,-270 179,-85
  rectangle: 201,-270 233,15
  rectangle: 256,-270 288,-85
  rectangle: 310,-270 342,15
  rectangle: 364,-270 396,-85
  rectangle: 419,-270 451,15
  rectangle: 473,-270 505,-85
  rectangle: 527,-270 559,15
  rectangle: 582,-270 614,-85
  rectangle: 636,-270 668,15
  lines w6: -845,-440 -845,-420 -840,-420 -840,-325 cw(c-815,-325) -815,-300 ; -805,-460 cw(c-805,-485) -780,-485 -780,-670 ccw(c-760,-670) -760,-690 -750,-690 750,-690 760,-690 ccw(c760,-670) 780,-670 780,-485 cw(c805,-485) 805,-460 ; 815,-300 cw(c815,-325) 840,-325 840,-420 845,-420 845,-440 ; -1045,-300 -1045,-420 -1045,-440 -1045,-460 -765,-460 765,-460 1045,-460 1045,-440 1045,-420 1045,-300 ; -1045,-300 -1045,-295 -1045,105 -1025,125 -830,125 -810,105 -810,-300 ; -1045,-300 -845,-300 -810,-300 ; -810,-300 -800,-300 ; -800,-300 800,-300 ; -800,-300 -800,-270 800,-270 800,-300 ; 800,-300 810,-300 ; 810,-300 845,-300 1045,-300 ; 810,-300 810,105 830,125 1020,125 1045,100 1045,-295 1045,-300
  text "1" at -735,25 h77.5
  text "13" at 705,25 h77.5
  text "14" at -780,-80 h77.5
  text "25" at 695,-75 h77.5
  text "2,54" at -970,-270 h77.5
  text "M25" at -735,-385 h77.5
Mechanical 2:
  text ">NAME" at -1040,175 h108.5
Mechanical 4:
  text ">VALUE" at -700,-805 h108.5
Mechanical 9:
  circle w0: c926,0 r105
  circle w0: c-926,0 r105
Mechanical 10:
  circle w0: c926,0 r105
  circle w0: c-926,0 r105
Mechanical 16:
  lines w32: -652,5 -652,45 ; -598,-94 -598,-54 ; -543,5 -543,45 ; -489,-94 -489,-54 ; -435,5 -435,45 ; -380,-94 -380,-54 ; -326,5 -326,45 ; -272,-95 -272,-55 ; -217,5 -217,45 ; -163,-95 -163,-55 ; -109,5 -109,45 ; -54,-95 -54,-55 ; 0,5 0,45 ; 54,-95 54,-55 ; 109,5 109,45 ; 163,-95 163,-55 ; 217,5 217,45 ; 272,-95 272,-55 ; 326,5 326,45 ; 380,-95 380,-55 ; 435,5 435,45 ; 489,-95 489,-55 ; 543,5 543,45 ; 598,-95 598,-55 ; 652,5 652,45

## M25HP [mil]
pads (27):
  oct 60x60 hole 40: 1(-652,50) 2(-543,50) 3(-435,50) 4(-326,50) 5(-217,50) 6(-109,50) 7(0,50) 8(109,50) 9(217,50) 10(326,50) 11(435,50) 12(543,50) 13(652,50) 14(-598,-50) 15(-489,-50) 16(-380,-50) 17(-272,-50) 18(-163,-50) 19(-54,-50) 20(54,-50) 21(163,-50) 22(272,-50) 23(380,-50) 24(489,-50) 25(598,-50)
  round 200 hole 130: G1(-926,0) G2(926,0)
Top Overlay:
  drawing of 161 lines, arcs and shapes, not listed
  text "1" at -735,25 h77.5
  text "13" at 705,25 h77.5
  text "14" at -780,-80 h77.5
  text "25" at 695,-75 h77.5
  text "2,54" at -970,-270 h77.5
  text "M25" at -735,-385 h77.5
Mechanical 2:
  text ">NAME" at -1040,175 h108.5
Mechanical 4:
  text ">VALUE" at -700,-805 h108.5
Mechanical 16:
  lines w32: -652,5 -652,45 ; -598,-94 -598,-54 ; -543,5 -543,45 ; -489,-94 -489,-54 ; -435,5 -435,45 ; -380,-94 -380,-54 ; -326,5 -326,45 ; -272,-95 -272,-55 ; -217,5 -217,45 ; -163,-95 -163,-55 ; -109,5 -109,45 ; -54,-95 -54,-55 ; 0,5 0,45 ; 54,-95 54,-55 ; 109,5 109,45 ; 163,-95 163,-55 ; 217,5 217,45 ; 272,-95 272,-55 ; 326,5 326,45 ; 380,-95 380,-55 ; 435,5 435,45 ; 489,-95 489,-55 ; 543,5 543,45 ; 598,-95 598,-55 ; 652,5 652,45